# EAGLE library part DS2764AE+025 (library Components Library)
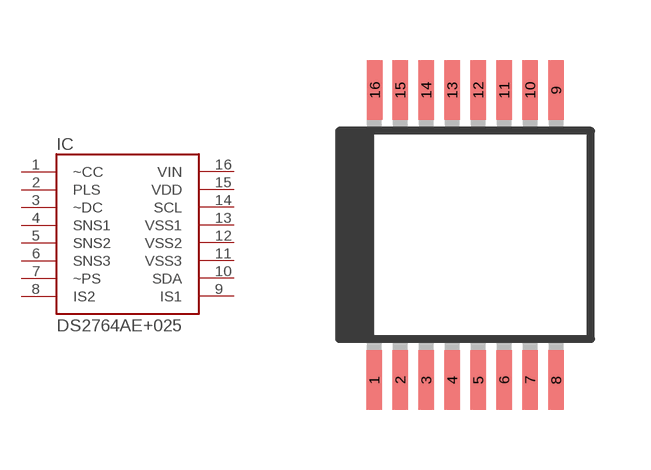
[diagram p0: symbol with the pads of SSOP16; footprint SSOP16]

Designator prefix IC

## DS2764AE+025  [SSOP16]
1  ~CC  out
2  PLS
3  ~DC  out
4  SNS1
5  SNS2
6  SNS3
7  ~PS  in
8  IS2
9  IS1
10  SDA
11  VSS3  pwr
12  VSS2  pwr
13  VSS1  pwr
14  SCL
15  VDD  pwr
16  VIN  in

## Footprint SSOP16 (pad centres in mm)
smd 0.381 x 1.499: 1 -2.275,-3.625; 2 -1.625,-3.625; 3 -0.975,-3.625; 4 -0.325,-3.625; 5 0.325,-3.625; 6 0.975,-3.625; 7 1.625,-3.625; 8 2.275,-3.625; 9 2.275,3.625; 10 1.625,3.625; 11 0.975,3.625; 12 0.325,3.625; 13 -0.325,3.625; 14 -0.975,3.625; 15 -1.625,3.625; 16 -2.261,3.625